# Altium schematic symbol library B3F-1000S.SchLib: 1 symbol
Pins are listed as number, name and electrical type; pins without a type are passive.

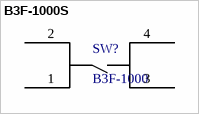
[diagram p0: symbol B3F-1000S]

## B3F-1000S
designator SW?, comment B3F-1000
footprint PCBComponent_1
pins: 1 P1, 2 P2, 3 P3, 4 P4